# EAGLE library part LSM6DS3TR-C (library LSM6DS3TR-C)
Check availability <https://pricing.snapeda.com/parts/LSM6DS3TR-C/STMicroelectronics/view-part?ref=eda>
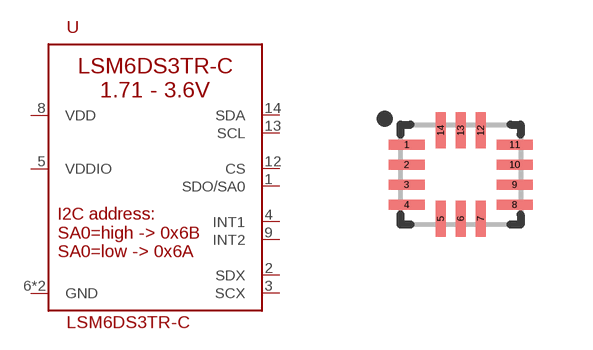
[diagram p0: symbol with the pads of LGA-14-2.5X3MM; footprint LGA-14-2.5X3MM]

Designator prefix U

## LSM6DS3TR-C (Availability: In Stock; Check_prices: https://www.snapeda.com/parts/LSM6DS3TR-C/STMicroelectronics/view-part/?ref=eda; Description: IMUs - Inertial Measurement Units iNEMO 6DoF inertial module, for entry level / mid-tier smart phones and Portable PC platforms; MF: STMicroelectronics; MP: LSM6DS3TR-C; Package: None; Price: None; Purchase-URL: https://www.snapeda.com/api/url_track_click_mouser/?unipart_id=3223883&manufacturer=STMicroelectronics&part_name=LSM6DS3TR-C&search_term=None; SnapEDA_Link: https://www.snapeda.com/parts/LSM6DS3TR-C/STMicroelectronics/view-part/?ref=snap)  [LGA-14-2.5X3MM]
1  SDO/SA0
2  SDX
3  SCX
4  INT1
5  VDDIO
6  GND
7  GND
8  VDD
9  INT2
12  CS
13  SCL
14  SDA

## Footprint LGA-14-2.5X3MM (pad centres in mm)
smd 0.9 x 0.25: 1 -1.35,0.75; 2 -1.35,0.25; 3 -1.35,-0.25; 4 -1.35,-0.75; 8 1.35,-0.75; 9 1.35,-0.25; 10 1.35,0.25; 11 1.35,0.75
smd 0.25 x 0.9: 5 -0.5,-1.1; 6 0,-1.1; 7 0.5,-1.1; 12 0.5,1.1; 13 0,1.1; 14 -0.5,1.1